# EAGLE library part 53261-1271 (library picoblade_8P)
Molex PICOBLADE Series, Series Number 53261, 1.25mm Pitch 12 Way 1 Row Right Angle PCB Header, Solder Termination, 1A Source: Datasheet <http://www.molex.com/webdocs/datasheets/pdf/en-us//0532611271_PCB_HEADERS.pdf>
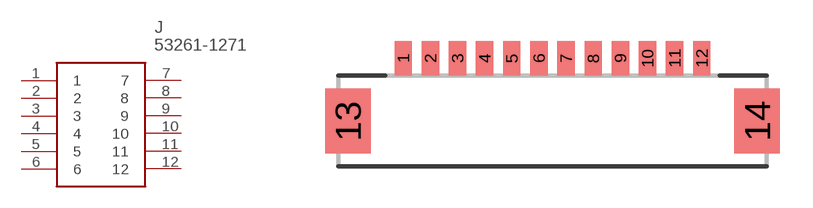
[diagram p3: symbol with the pads of 53261-1271; footprint 53261-1271]

Designator prefix J

## 53261-1271 (DESCRIPTION: Molex PICOBLADE Series, Series Number 53261, 1.25mm Pitch 12 Way 1 Row Right Angle PCB Header, Solder Termination, 1A; HEIGHT: mm; MANUFACTURER_NAME: Molex; MANUFACTURER_PART_NUMBER: 53261-1271; MOUSER_PART_NUMBER: 538-53261-1271; MOUSER_PRICE-STOCK: https://www.mouser.co.uk/ProductDetail/Molex/53261-1271?qs=%252B72YyncTwW8ciqCjtXK7Ww%3D%3D)  [53261-1271]
1  1
2  2
3  3
4  4
5  5
6  6
7  7
8  8
9  9
10  10
11  11
12  12

## Footprint 53261-1271 (pad centres in mm)
53261-1271
smd 0.8 x 1.6: 1 -6.875,0.8; 2 -5.625,0.8; 3 -4.375,0.8; 4 -3.125,0.8; 5 -1.875,0.8; 6 -0.625,0.8; 7 0.625,0.8; 8 1.875,0.8; 9 3.125,0.8; 10 4.375,0.8; 11 5.625,0.8; 12 6.875,0.8
smd 2.1 x 3: 13 -9.425,-2.1; 14 9.425,-2.1